# Altium integrated library Oscillator - Crystal.IntLib: 422 symbols (part 5 of 7)
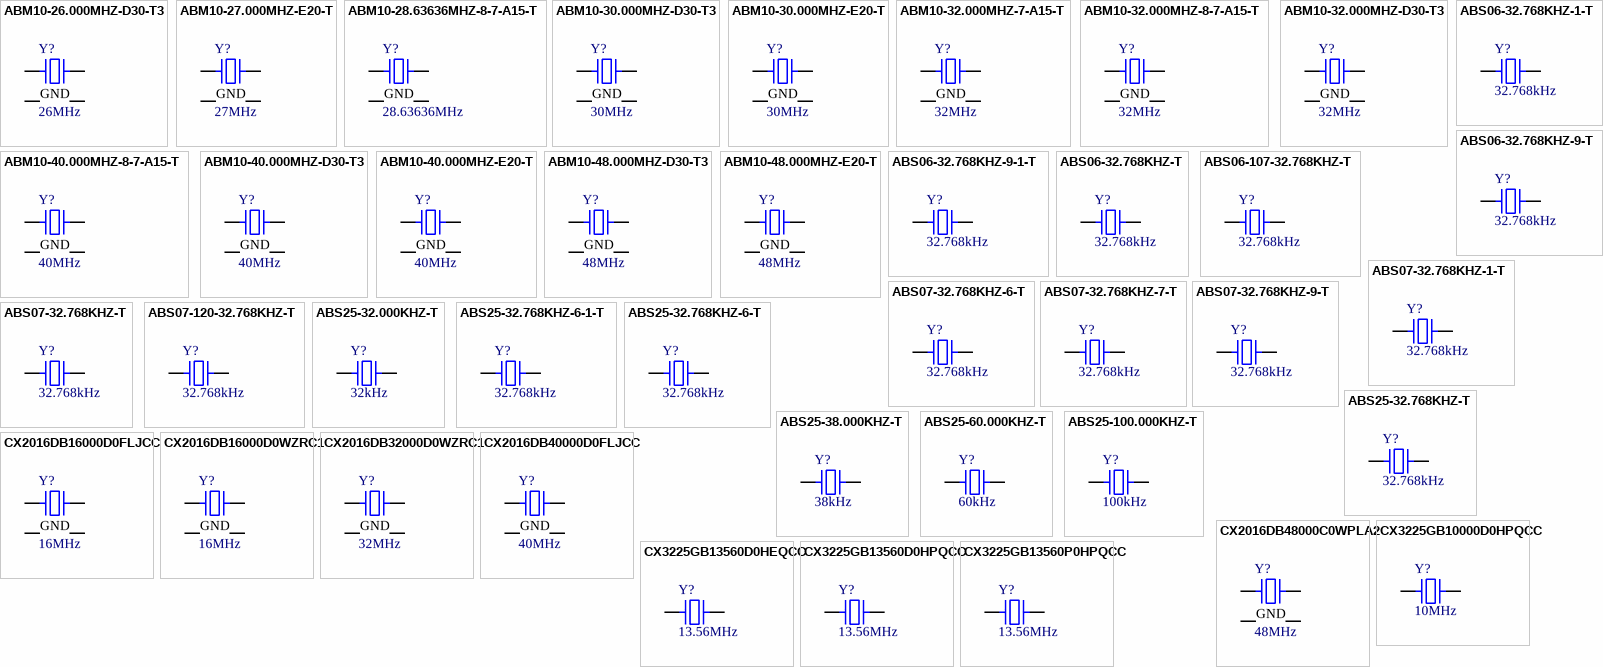
[diagram p14: symbols ABM10-26.000MHZ-D30-T3 to CX3225GB13560P0HPQCC]

## CX2016DB16000D0FLJCC
designator Y?, comment 16MHz
CRYSTAL 16.0000MHZ 8PF SMD; Part Number: CX2016DB16000D0FLJCC; Manufacturer: AVX Corp/Kyocera Corp; Frequency Stability: 15ppm; Frequency Tolerance: 10ppm; ESR: 200 Ohm; Operating Mode: Fundamental; PartId: 8873; Supplier 1: Digi-Key; Supplier Part Number 1: 1253-1348-2-ND; ComponentLink1Description: Datasheet; ComponentLink1URL: http://media.digikey.com/pdf/Data%20Sheets/Optrex%20PDFs/CX2016DB_Series_Spec.pdf; ComponentLink2Description: Digi-Key Listing; ComponentLink2URL: https://www.digikey.com/product-detail/en/CX2016DB16000D0FLJCC/1253-1348-2-ND/4896402; Price: 0,4785; Type: MHz Crystal; Device Package: 4-SMD, No Lead (DFN, LCC); Series: CX2016DB, Kyocera; Frequency: 16MHz; Load Capacitance: 8pF
footprint KYOCERA CX2016DB
pins: 1, 2 GND, 3, 4 GND

## CX2016DB16000D0WZRC1
designator Y?, comment 16MHz
CRYSTAL 16.0000MHZ 8PF SMD; Part Number: CX2016DB16000D0WZRC1; Manufacturer: AVX Corp/Kyocera Corp; Frequency Stability: 40ppm; Frequency Tolerance: 25ppm; ESR: 130 Ohm; Operating Mode: Fundamental; PartId: 8876; Supplier 1: Digi-Key; Supplier Part Number 1: 1253-1585-2-ND; ComponentLink1Description: Datasheet; ComponentLink1URL: http://media.digikey.com/pdf/Data%20Sheets/AVX%20PDFs/CX2016DB16000D0WZRC1_Spec.pdf; ComponentLink2Description: Digi-Key Listing; ComponentLink2URL: https://www.digikey.com/product-detail/en/CX2016DB16000D0WZRC1/1253-1585-2-ND/5436841; Price: 0,3625; Type: MHz Crystal; Device Package: 4-SMD, No Lead (DFN, LCC); Series: CX2016DB, Kyocera; Frequency: 16MHz; Load Capacitance: 8pF
footprint KYOCERA CX2016DB
pins: 1, 2 GND, 3, 4 GND

## CX2016DB32000D0WZRC1
designator Y?, comment 32MHz
CRYSTAL 32.0000MHZ 8PF SMD; Part Number: CX2016DB32000D0WZRC1; Manufacturer: AVX Corp/Kyocera Corp; Frequency Stability: 40ppm; Frequency Tolerance: 25ppm; ESR: 50 Ohm; Operating Mode: Fundamental; PartId: 8877; Supplier 1: Digi-Key; Supplier Part Number 1: 1253-1586-2-ND; ComponentLink1Description: Datasheet; ComponentLink1URL: http://media.digikey.com/pdf/Data%20Sheets/AVX%20PDFs/CX2016DB32000D0WZRC1_Spec.pdf; ComponentLink2Description: Digi-Key Listing; ComponentLink2URL: https://www.digikey.com/product-detail/en/CX2016DB32000D0WZRC1/1253-1586-2-ND/5436842; Price: 0,3625; Type: MHz Crystal; Device Package: 4-SMD, No Lead (DFN, LCC); Series: CX2016DB, Kyocera; Frequency: 32MHz; Load Capacitance: 8pF
footprint KYOCERA CX2016DB
pins: 1, 2 GND, 3, 4 GND

## CX2016DB40000D0FLJCC
designator Y?, comment 40MHz
CRYSTAL 40.0000MHZ 8PF SMD; Part Number: CX2016DB40000D0FLJCC; Manufacturer: AVX Corp/Kyocera Corp; Frequency Stability: 15ppm; Frequency Tolerance: 10ppm; ESR: 50 Ohm; Operating Mode: Fundamental; PartId: 8874; Supplier 1: Digi-Key; Supplier Part Number 1: 1253-1120-2-ND; ComponentLink1Description: Datasheet; ComponentLink1URL: http://media.digikey.com/pdf/Data%20Sheets/Optrex%20PDFs/CX2016DB_Series_Spec.pdf; ComponentLink2Description: Digi-Key Listing; ComponentLink2URL: https://www.digikey.com/product-detail/en/CX2016DB40000D0FLJCC/1253-1120-2-ND/4453820; Price: 0,4785; Type: MHz Crystal; Device Package: 4-SMD, No Lead (DFN, LCC); Series: CX2016DB, Kyocera; Frequency: 40MHz; Load Capacitance: 8pF
footprint KYOCERA CX2016DB
pins: 1, 2 GND, 3, 4 GND

## CX2016DB48000C0WPLA2
designator Y?, comment 48MHz
CRYSTAL 48.0000MHZ 7PF SMD; Part Number: CX2016DB48000C0WPLA2; Manufacturer: AVX Corp/Kyocera Corp; Frequency Stability: 15ppm; Frequency Tolerance: 20ppm; ESR: 22 Ohm; Operating Mode: Fundamental; PartId: 8875; Supplier 1: Digi-Key; Supplier Part Number 1: 1253-1345-2-ND; ComponentLink1Description: Datasheet; ComponentLink1URL: http://media.digikey.com/pdf/Data%20Sheets/AVX%20PDFs/CX2016DB48000C0WPLA2_Spec.pdf; ComponentLink2Description: Digi-Key Listing; ComponentLink2URL: https://www.digikey.com/product-detail/en/CX2016DB48000C0WPLA2/1253-1345-2-ND/4896399; Price: 0,4785; Type: MHz Crystal; Device Package: 4-SMD, No Lead (DFN, LCC); Series: CX2016DB, Kyocera; Frequency: 48MHz; Load Capacitance: 7pF
footprint KYOCERA CX2016DB
pins: 1, 2 GND, 3, 4 GND

## CX3225GB10000D0HPQCC
designator Y?, comment 10MHz
CRYSTAL 10.0000MHZ 8PF SMD; Part Number: CX3225GB10000D0HPQCC; Manufacturer: AVX Corp/Kyocera Corp; Frequency Stability: 30ppm; Frequency Tolerance: 20ppm; ESR: 300 Ohm; Operating Mode: Fundamental; PartId: 8835; Supplier 1: Digi-Key; Supplier Part Number 1: 1253-1164-2-ND; ComponentLink1Description: Datasheet; ComponentLink1URL: http://media.digikey.com/pdf/Data%20Sheets/AVX%20PDFs/CX3225GBxD0HPQCC_Series_Spec.pdf; ComponentLink2Description: Digi-Key Listing; ComponentLink2URL: https://www.digikey.com/product-detail/en/CX3225GB10000D0HPQCC/1253-1164-2-ND/4453884; Price: 0,3915; Type: MHz Crystal; Device Package: 4-SMD, No Lead (DFN, LCC); Series: CX3225GB, Kyocera; Frequency: 10MHz; Load Capacitance: 8pF
footprint Kyocera CX3225GB
pins: 1, 3

## CX3225GB13560D0HEQCC
designator Y?, comment 13.56MHz
CRYSTAL 13.5600MHZ 8PF SMD; Part Number: CX3225GB13560D0HEQCC; Manufacturer: AVX Corp/Kyocera Corp; Frequency Stability: 30ppm; Frequency Tolerance: 20ppm; ESR: 250 Ohm; Operating Mode: Fundamental; PartId: 8823; Supplier 1: Digi-Key; Supplier Part Number 1: 1253-1171-2-ND; ComponentLink1Description: Datasheet; ComponentLink1URL: http://media.digikey.com/pdf/Data%20Sheets/AVX%20PDFs/CX3225GBxD0HEQ_Series_Spec.pdf; ComponentLink2Description: Digi-Key Listing; ComponentLink2URL: https://www.digikey.com/product-detail/en/CX3225GB13560D0HEQCC/1253-1171-2-ND/4453865; Price: 0,377; Type: MHz Crystal; Device Package: 4-SMD, No Lead (DFN, LCC); Series: CX3225GB, Kyocera; Frequency: 13.56MHz; Load Capacitance: 8pF
footprint Kyocera CX3225GB
pins: 1, 3

## CX3225GB13560D0HPQCC
designator Y?, comment 13.56MHz
CRYSTAL 13.5600MHZ 8PF SMD; Part Number: CX3225GB13560D0HPQCC; Manufacturer: AVX Corp/Kyocera Corp; Frequency Stability: 30ppm; Frequency Tolerance: 20ppm; ESR: 250 Ohm; Operating Mode: Fundamental; PartId: 8850; Supplier 1: Digi-Key; Supplier Part Number 1: 1253-1172-2-ND; ComponentLink1Description: Datasheet; ComponentLink1URL: http://media.digikey.com/pdf/Data%20Sheets/AVX%20PDFs/CX3225GBxD0HPQCC_Series_Spec.pdf; ComponentLink2Description: Digi-Key Listing; ComponentLink2URL: https://www.digikey.com/product-detail/en/CX3225GB13560D0HPQCC/1253-1172-2-ND/4453886; Price: 0,4785; Type: MHz Crystal; Device Package: 4-SMD, No Lead (DFN, LCC); Series: CX3225GB, Kyocera; Frequency: 13.56MHz; Load Capacitance: 8pF
footprint Kyocera CX3225GB
pins: 1, 3

## CX3225GB13560P0HPQCC
designator Y?, comment 13.56MHz
CRYSTAL 13.5600MHZ 18PF SMD; Part Number: CX3225GB13560P0HPQCC; Manufacturer: AVX Corp/Kyocera Corp; Frequency Stability: 30ppm; Frequency Tolerance: 20ppm; ESR: 250 Ohm; Operating Mode: Fundamental; PartId: 8821; Supplier 1: Digi-Key; Supplier Part Number 1: 1253-1173-2-ND; ComponentLink1Description: Datasheet; ComponentLink1URL: http://media.digikey.com/pdf/Data%20Sheets/AVX%20PDFs/CX3225GB_Series_Spec.pdf; ComponentLink2Description: Digi-Key Listing; ComponentLink2URL: https://www.digikey.com/product-detail/en/CX3225GB13560P0HPQCC/1253-1173-2-ND/4453909; Price: 0,3915; Type: MHz Crystal; Device Package: 4-SMD, No Lead (DFN, LCC); Series: CX3225GB, Kyocera; Frequency: 13.56MHz; Load Capacitance: 18pF
footprint Kyocera CX3225GB
pins: 1, 3

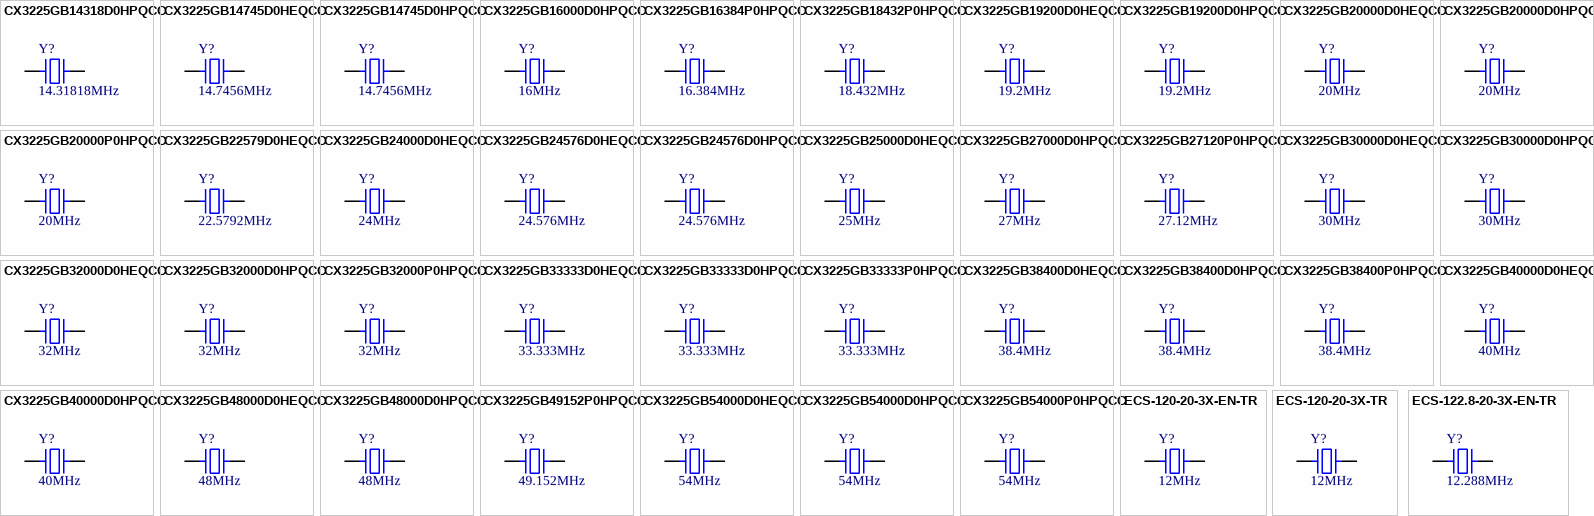
[diagram p7: symbols CX3225GB14318D0HPQCC to ECS-122.8-20-3X-EN-TR]

## CX3225GB14318D0HPQCC
designator Y?, comment 14.31818MHz
CRYSTAL 14.31818MHZ 8PF SMD; Part Number: CX3225GB14318D0HPQCC; Manufacturer: AVX Corp/Kyocera Corp; Frequency Stability: 30ppm; Frequency Tolerance: 20ppm; ESR: 100 Ohm; Operating Mode: Fundamental; PartId: 8836; Supplier 1: Digi-Key; Supplier Part Number 1: 1253-1175-2-ND; ComponentLink1Description: Datasheet; ComponentLink1URL: http://media.digikey.com/pdf/Data%20Sheets/AVX%20PDFs/CX3225GBxD0HPQCC_Series_Spec.pdf; ComponentLink2Description: Digi-Key Listing; ComponentLink2URL: https://www.digikey.com/product-detail/en/CX3225GB14318D0HPQCC/1253-1175-2-ND/4453887; Price: 0,3915; Type: MHz Crystal; Device Package: 4-SMD, No Lead (DFN, LCC); Series: CX3225GB, Kyocera; Frequency: 14.31818MHz; Load Capacitance: 8pF
footprint Kyocera CX3225GB
pins: 1, 3

## CX3225GB14745D0HEQCC
designator Y?, comment 14.7456MHz
CRYSTAL 14.7456MHZ 8PF SMD; Part Number: CX3225GB14745D0HEQCC; Manufacturer: AVX Corp/Kyocera Corp; Frequency Stability: 30ppm; Frequency Tolerance: 20ppm; ESR: 100 Ohm; Operating Mode: Fundamental; PartId: 8824; Supplier 1: Digi-Key; Supplier Part Number 1: 1253-1177-2-ND; ComponentLink1Description: Datasheet; ComponentLink1URL: http://media.digikey.com/pdf/Data%20Sheets/AVX%20PDFs/CX3225GBxD0HEQ_Series_Spec.pdf; ComponentLink2Description: Digi-Key Listing; ComponentLink2URL: https://www.digikey.com/product-detail/en/CX3225GB14745D0HEQCC/1253-1177-2-ND/4453867; Price: 0,377; Type: MHz Crystal; Device Package: 4-SMD, No Lead (DFN, LCC); Series: CX3225GB, Kyocera; Frequency: 14.7456MHz; Load Capacitance: 8pF
footprint Kyocera CX3225GB
pins: 1, 3

## CX3225GB14745D0HPQCC
designator Y?, comment 14.7456MHz
CRYSTAL 14.7456MHZ 8PF SMD; Part Number: CX3225GB14745D0HPQCC; Manufacturer: AVX Corp/Kyocera Corp; Frequency Stability: 30ppm; Frequency Tolerance: 20ppm; ESR: 100 Ohm; Operating Mode: Fundamental; PartId: 8805; Supplier 1: Digi-Key; Supplier Part Number 1: 1253-1178-2-ND; ComponentLink1Description: Datasheet; ComponentLink1URL: http://media.digikey.com/pdf/Data%20Sheets/AVX%20PDFs/CX3225GBxD0HPQCC_Series_Spec.pdf; ComponentLink2Description: Digi-Key Listing; ComponentLink2URL: https://www.digikey.com/product-detail/en/CX3225GB14745D0HPQCC/1253-1178-2-ND/4453888; Price: 0,406; Type: MHz Crystal; Device Package: 4-SMD, No Lead (DFN, LCC); Series: CX3225GB, Kyocera; Frequency: 14.7456MHz; Load Capacitance: 8pF
footprint Kyocera CX3225GB
pins: 1, 3

## CX3225GB16000D0HPQCC
designator Y?, comment 16MHz
CRYSTAL 16.0000MHZ 8PF SMD; Part Number: CX3225GB16000D0HPQCC; Manufacturer: AVX Corp/Kyocera Corp; Frequency Stability: 30ppm; Frequency Tolerance: 20ppm; ESR: 80 Ohm; Operating Mode: Fundamental; PartId: 8799; Supplier 1: Digi-Key; Supplier Part Number 1: 1253-1181-2-ND; ComponentLink1Description: Datasheet; ComponentLink1URL: http://media.digikey.com/pdf/Data%20Sheets/AVX%20PDFs/CX3225GBxD0HPQCC_Series_Spec.pdf; ComponentLink2Description: Digi-Key Listing; ComponentLink2URL: https://www.digikey.com/product-detail/en/CX3225GB16000D0HPQCC/1253-1181-2-ND/4453889; Price: 0,345; Type: MHz Crystal; Device Package: 4-SMD, No Lead (DFN, LCC); Series: CX3225GB, Kyocera; Frequency: 16MHz; Load Capacitance: 8pF
footprint Kyocera CX3225GB
pins: 1, 3

## CX3225GB16384P0HPQCC
designator Y?, comment 16.384MHz
CRYSTAL 16.3840MHZ 18PF SMD; Part Number: CX3225GB16384P0HPQCC; Manufacturer: AVX Corp/Kyocera Corp; Frequency Stability: 30ppm; Frequency Tolerance: 20ppm; ESR: 80 Ohm; Operating Mode: Fundamental; PartId: 8844; Supplier 1: Digi-Key; Supplier Part Number 1: 1253-1183-2-ND; ComponentLink1Description: Datasheet; ComponentLink1URL: http://media.digikey.com/pdf/Data%20Sheets/AVX%20PDFs/CX3225GB_Series_Spec.pdf; ComponentLink2Description: Digi-Key Listing; ComponentLink2URL: https://www.digikey.com/product-detail/en/CX3225GB16384P0HPQCC/1253-1183-2-ND/4453913; Price: 0,3915; Type: MHz Crystal; Device Package: 4-SMD, No Lead (DFN, LCC); Series: CX3225GB, Kyocera; Frequency: 16.384MHz; Load Capacitance: 18pF
footprint Kyocera CX3225GB
pins: 1, 3

## CX3225GB18432P0HPQCC
designator Y?, comment 18.432MHz
CRYSTAL 18.4320MHZ 18PF SMD; Part Number: CX3225GB18432P0HPQCC; Manufacturer: AVX Corp/Kyocera Corp; Frequency Stability: 30ppm; Frequency Tolerance: 20ppm; ESR: 80 Ohm; Operating Mode: Fundamental; PartId: 8845; Supplier 1: Digi-Key; Supplier Part Number 1: 1253-1186-2-ND; ComponentLink1Description: Datasheet; ComponentLink1URL: http://media.digikey.com/pdf/Data%20Sheets/AVX%20PDFs/CX3225GB_Series_Spec.pdf; ComponentLink2Description: Digi-Key Listing; ComponentLink2URL: https://www.digikey.com/product-detail/en/CX3225GB18432P0HPQCC/1253-1186-2-ND/4453914; Price: 0,3915; Type: MHz Crystal; Device Package: 4-SMD, No Lead (DFN, LCC); Series: CX3225GB, Kyocera; Frequency: 18.432MHz; Load Capacitance: 18pF
footprint Kyocera CX3225GB
pins: 1, 3

## CX3225GB19200D0HEQCC
designator Y?, comment 19.2MHz
CRYSTAL 19.2000MHZ 8PF SMD; Part Number: CX3225GB19200D0HEQCC; Manufacturer: AVX Corp/Kyocera Corp; Frequency Stability: 30ppm; Frequency Tolerance: 20ppm; ESR: 80 Ohm; Operating Mode: Fundamental; PartId: 8825; Supplier 1: Digi-Key; Supplier Part Number 1: 1253-1187-2-ND; ComponentLink1Description: Datasheet; ComponentLink1URL: http://media.digikey.com/pdf/Data%20Sheets/AVX%20PDFs/CX3225GBxD0HEQ_Series_Spec.pdf; ComponentLink2Description: Digi-Key Listing; ComponentLink2URL: https://www.digikey.com/product-detail/en/CX3225GB19200D0HEQCC/1253-1187-2-ND/4453870; Price: 0,377; Type: MHz Crystal; Device Package: 4-SMD, No Lead (DFN, LCC); Series: CX3225GB, Kyocera; Frequency: 19.2MHz; Load Capacitance: 8pF
footprint Kyocera CX3225GB
pins: 1, 3

## CX3225GB19200D0HPQCC
designator Y?, comment 19.2MHz
CRYSTAL 19.2000MHZ 8PF SMD; Part Number: CX3225GB19200D0HPQCC; Manufacturer: AVX Corp/Kyocera Corp; Frequency Stability: 30ppm; Frequency Tolerance: 20ppm; ESR: 80 Ohm; Operating Mode: Fundamental; PartId: 8837; Supplier 1: Digi-Key; Supplier Part Number 1: 1253-1188-2-ND; ComponentLink1Description: Datasheet; ComponentLink1URL: http://media.digikey.com/pdf/Data%20Sheets/AVX%20PDFs/CX3225GBxD0HPQCC_Series_Spec.pdf; ComponentLink2Description: Digi-Key Listing; ComponentLink2URL: https://www.digikey.com/product-detail/en/CX3225GB19200D0HPQCC/1253-1188-2-ND/4453891; Price: 0,3915; Type: MHz Crystal; Device Package: 4-SMD, No Lead (DFN, LCC); Series: CX3225GB, Kyocera; Frequency: 19.2MHz; Load Capacitance: 8pF
footprint Kyocera CX3225GB
pins: 1, 3

## CX3225GB20000D0HEQCC
designator Y?, comment 20MHz
CRYSTAL 20.0000MHZ 8PF SMD; Part Number: CX3225GB20000D0HEQCC; Manufacturer: AVX Corp/Kyocera Corp; Frequency Stability: 30ppm; Frequency Tolerance: 20ppm; ESR: 60 Ohm; Operating Mode: Fundamental; PartId: 8826; Supplier 1: Digi-Key; Supplier Part Number 1: 1253-1190-2-ND; ComponentLink1Description: Datasheet; ComponentLink1URL: http://media.digikey.com/pdf/Data%20Sheets/AVX%20PDFs/CX3225GBxD0HEQ_Series_Spec.pdf; ComponentLink2Description: Digi-Key Listing; ComponentLink2URL: https://www.digikey.com/product-detail/en/CX3225GB20000D0HEQCC/1253-1190-2-ND/4453871; Price: 0,377; Type: MHz Crystal; Device Package: 4-SMD, No Lead (DFN, LCC); Series: CX3225GB, Kyocera; Frequency: 20MHz; Load Capacitance: 8pF
footprint Kyocera CX3225GB
pins: 1, 3

## CX3225GB20000D0HPQCC
designator Y?, comment 20MHz
CRYSTAL 20.0000MHZ 8PF SMD; Part Number: CX3225GB20000D0HPQCC; Manufacturer: AVX Corp/Kyocera Corp; Frequency Stability: 30ppm; Frequency Tolerance: 20ppm; ESR: 60 Ohm; Operating Mode: Fundamental; PartId: 8802; Supplier 1: Digi-Key; Supplier Part Number 1: 1253-1191-2-ND; ComponentLink1Description: Datasheet; ComponentLink1URL: http://media.digikey.com/pdf/Data%20Sheets/AVX%20PDFs/CX3225GBxD0HPQCC_Series_Spec.pdf; ComponentLink2Description: Digi-Key Listing; ComponentLink2URL: https://www.digikey.com/product-detail/en/CX3225GB20000D0HPQCC/1253-1191-2-ND/4453892; Price: 0,3915; Type: MHz Crystal; Device Package: 4-SMD, No Lead (DFN, LCC); Series: CX3225GB, Kyocera; Frequency: 20MHz; Load Capacitance: 8pF
footprint Kyocera CX3225GB
pins: 1, 3

## CX3225GB20000P0HPQCC
designator Y?, comment 20MHz
CRYSTAL 20.0000MHZ 18PF SMD; Part Number: CX3225GB20000P0HPQCC; Manufacturer: AVX Corp/Kyocera Corp; Frequency Stability: 30ppm; Frequency Tolerance: 20ppm; ESR: 60 Ohm; Operating Mode: Fundamental; PartId: 8846; Supplier 1: Digi-Key; Supplier Part Number 1: 1253-1192-2-ND; ComponentLink1Description: Datasheet; ComponentLink1URL: http://media.digikey.com/pdf/Data%20Sheets/AVX%20PDFs/CX3225GB_Series_Spec.pdf; ComponentLink2Description: Digi-Key Listing; ComponentLink2URL: https://www.digikey.com/product-detail/en/CX3225GB20000P0HPQCC/1253-1192-2-ND/4453916; Price: 0,3915; Type: MHz Crystal; Device Package: 4-SMD, No Lead (DFN, LCC); Series: CX3225GB, Kyocera; Frequency: 20MHz; Load Capacitance: 18pF
footprint Kyocera CX3225GB
pins: 1, 3

## CX3225GB22579D0HEQCC
designator Y?, comment 22.5792MHz
CRYSTAL 22.5792MHZ 8PF SMD; Part Number: CX3225GB22579D0HEQCC; Manufacturer: AVX Corp/Kyocera Corp; Frequency Stability: 30ppm; Frequency Tolerance: 20ppm; ESR: 60 Ohm; Operating Mode: Fundamental; PartId: 8827; Supplier 1: Digi-Key; Supplier Part Number 1: 1253-1193-2-ND; ComponentLink1Description: Datasheet; ComponentLink1URL: http://media.digikey.com/pdf/Data%20Sheets/AVX%20PDFs/CX3225GBxD0HEQ_Series_Spec.pdf; ComponentLink2Description: Digi-Key Listing; ComponentLink2URL: https://www.digikey.com/product-detail/en/CX3225GB22579D0HEQCC/1253-1193-2-ND/4453872; Price: 0,377; Type: MHz Crystal; Device Package: 4-SMD, No Lead (DFN, LCC); Series: CX3225GB, Kyocera; Frequency: 22.5792MHz; Load Capacitance: 8pF
footprint Kyocera CX3225GB
pins: 1, 3

## CX3225GB24000D0HEQCC
designator Y?, comment 24MHz
CRYSTAL 24.0000MHZ 8PF SMD; Part Number: CX3225GB24000D0HEQCC; Manufacturer: AVX Corp/Kyocera Corp; Frequency Stability: 30ppm; Frequency Tolerance: 20ppm; ESR: 60 Ohm; Operating Mode: Fundamental; PartId: 8811; Supplier 1: Digi-Key; Supplier Part Number 1: 1253-1196-2-ND; ComponentLink1Description: Datasheet; ComponentLink1URL: http://media.digikey.com/pdf/Data%20Sheets/AVX%20PDFs/CX3225GBxD0HEQ_Series_Spec.pdf; ComponentLink2Description: Digi-Key Listing; ComponentLink2URL: https://www.digikey.com/product-detail/en/CX3225GB24000D0HEQCC/1253-1196-2-ND/4453873; Price: 0,297; Type: MHz Crystal; Device Package: 4-SMD, No Lead (DFN, LCC); Series: CX3225GB, Kyocera; Frequency: 24MHz; Load Capacitance: 8pF
footprint Kyocera CX3225GB
pins: 1, 3

## CX3225GB24576D0HEQCC
designator Y?, comment 24.576MHz
CRYSTAL 24.5760MHZ 8PF SMD; Part Number: CX3225GB24576D0HEQCC; Manufacturer: AVX Corp/Kyocera Corp; Frequency Stability: 30ppm; Frequency Tolerance: 20ppm; ESR: 60 Ohm; Operating Mode: Fundamental; PartId: 8828; Supplier 1: Digi-Key; Supplier Part Number 1: 1253-1199-2-ND; ComponentLink1Description: Datasheet; ComponentLink1URL: http://media.digikey.com/pdf/Data%20Sheets/AVX%20PDFs/CX3225GBxD0HEQ_Series_Spec.pdf; ComponentLink2Description: Digi-Key Listing; ComponentLink2URL: https://www.digikey.com/product-detail/en/CX3225GB24576D0HEQCC/1253-1199-2-ND/4453874; Price: 0,377; Type: MHz Crystal; Device Package: 4-SMD, No Lead (DFN, LCC); Series: CX3225GB, Kyocera; Frequency: 24.576MHz; Load Capacitance: 8pF
footprint Kyocera CX3225GB
pins: 1, 3

## CX3225GB24576D0HPQCC
designator Y?, comment 24.576MHz
CRYSTAL 24.5760MHZ 8PF SMD; Part Number: CX3225GB24576D0HPQCC; Manufacturer: AVX Corp/Kyocera Corp; Frequency Stability: 30ppm; Frequency Tolerance: 20ppm; ESR: 60 Ohm; Operating Mode: Fundamental; PartId: 8820; Supplier 1: Digi-Key; Supplier Part Number 1: 1253-1200-2-ND; ComponentLink1Description: Datasheet; ComponentLink1URL: http://media.digikey.com/pdf/Data%20Sheets/AVX%20PDFs/CX3225GBxD0HPQCC_Series_Spec.pdf; ComponentLink2Description: Digi-Key Listing; ComponentLink2URL: https://www.digikey.com/product-detail/en/CX3225GB24576D0HPQCC/1253-1200-2-ND/4453895; Price: 0,3915; Type: MHz Crystal; Device Package: 4-SMD, No Lead (DFN, LCC); Series: CX3225GB, Kyocera; Frequency: 24.576MHz; Load Capacitance: 8pF
footprint Kyocera CX3225GB
pins: 1, 3

## CX3225GB25000D0HEQCC
designator Y?, comment 25MHz
CRYSTAL 25.0000MHZ 8PF SMD; Part Number: CX3225GB25000D0HEQCC; Manufacturer: AVX Corp/Kyocera Corp; Frequency Stability: 30ppm; Frequency Tolerance: 20ppm; ESR: 60 Ohm; Operating Mode: Fundamental; PartId: 8796; Supplier 1: Digi-Key; Supplier Part Number 1: 1253-1202-2-ND; ComponentLink1Description: Datasheet; ComponentLink1URL: http://media.digikey.com/pdf/Data%20Sheets/AVX%20PDFs/CX3225GBxD0HEQ_Series_Spec.pdf; ComponentLink2Description: Digi-Key Listing; ComponentLink2URL: https://www.digikey.com/product-detail/en/CX3225GB25000D0HEQCC/1253-1202-2-ND/4453875; Price: 0,377; Type: MHz Crystal; Device Package: 4-SMD, No Lead (DFN, LCC); Series: CX3225GB, Kyocera; Frequency: 25MHz; Load Capacitance: 8pF
footprint Kyocera CX3225GB
pins: 1, 3

## CX3225GB27000D0HPQCC
designator Y?, comment 27MHz
CRYSTAL 27.0000MHZ 8PF SMD; Part Number: CX3225GB27000D0HPQCC; Manufacturer: AVX Corp/Kyocera Corp; Frequency Stability: 30ppm; Frequency Tolerance: 20ppm; ESR: 50 Ohm; Operating Mode: Fundamental; PartId: 8838; Supplier 1: Digi-Key; Supplier Part Number 1: 1253-1206-2-ND; ComponentLink1Description: Datasheet; ComponentLink1URL: http://media.digikey.com/pdf/Data%20Sheets/AVX%20PDFs/CX3225GBxD0HPQCC_Series_Spec.pdf; ComponentLink2Description: Digi-Key Listing; ComponentLink2URL: https://www.digikey.com/product-detail/en/CX3225GB27000D0HPQCC/1253-1206-2-ND/4453897; Price: 0,3915; Type: MHz Crystal; Device Package: 4-SMD, No Lead (DFN, LCC); Series: CX3225GB, Kyocera; Frequency: 27MHz; Load Capacitance: 8pF
footprint Kyocera CX3225GB
pins: 1, 3

## CX3225GB27120P0HPQCC
designator Y?, comment 27.12MHz
CRYSTAL 27.1200MHZ 18PF SMD; Part Number: CX3225GB27120P0HPQCC; Manufacturer: AVX Corp/Kyocera Corp; Frequency Stability: 30ppm; Frequency Tolerance: 20ppm; ESR: 50 Ohm; Operating Mode: Fundamental; PartId: 8808; Supplier 1: Digi-Key; Supplier Part Number 1: 1253-1208-2-ND; ComponentLink1Description: Datasheet; ComponentLink1URL: http://media.digikey.com/pdf/Data%20Sheets/AVX%20PDFs/CX3225GB_Series_Spec.pdf; ComponentLink2Description: Digi-Key Listing; ComponentLink2URL: https://www.digikey.com/product-detail/en/CX3225GB27120P0HPQCC/1253-1208-2-ND/4453922; Price: 0,406; Type: MHz Crystal; Device Package: 4-SMD, No Lead (DFN, LCC); Series: CX3225GB, Kyocera; Frequency: 27.12MHz; Load Capacitance: 18pF
footprint Kyocera CX3225GB
pins: 1, 3

## CX3225GB30000D0HEQCC
designator Y?, comment 30MHz
CRYSTAL 30.0000MHZ 8PF SMD; Part Number: CX3225GB30000D0HEQCC; Manufacturer: AVX Corp/Kyocera Corp; Frequency Stability: 30ppm; Frequency Tolerance: 20ppm; ESR: 50 Ohm; Operating Mode: Fundamental; PartId: 8829; Supplier 1: Digi-Key; Supplier Part Number 1: 1253-1209-2-ND; ComponentLink1Description: Datasheet; ComponentLink1URL: http://media.digikey.com/pdf/Data%20Sheets/AVX%20PDFs/CX3225GBxD0HEQ_Series_Spec.pdf; ComponentLink2Description: Digi-Key Listing; ComponentLink2URL: https://www.digikey.com/product-detail/en/CX3225GB30000D0HEQCC/1253-1209-2-ND/4453877; Price: 0,377; Type: MHz Crystal; Device Package: 4-SMD, No Lead (DFN, LCC); Series: CX3225GB, Kyocera; Frequency: 30MHz; Load Capacitance: 8pF
footprint Kyocera CX3225GB
pins: 1, 3

## CX3225GB30000D0HPQCC
designator Y?, comment 30MHz
CRYSTAL 30.0000MHZ 8PF SMD; Part Number: CX3225GB30000D0HPQCC; Manufacturer: AVX Corp/Kyocera Corp; Frequency Stability: 30ppm; Frequency Tolerance: 20ppm; ESR: 50 Ohm; Operating Mode: Fundamental; PartId: 8851; Supplier 1: Digi-Key; Supplier Part Number 1: 1253-1210-2-ND; ComponentLink1Description: Datasheet; ComponentLink1URL: http://media.digikey.com/pdf/Data%20Sheets/AVX%20PDFs/CX3225GBxD0HPQCC_Series_Spec.pdf; ComponentLink2Description: Digi-Key Listing; ComponentLink2URL: https://www.digikey.com/product-detail/en/CX3225GB30000D0HPQCC/1253-1210-2-ND/4453898; Price: 0,4785; Type: MHz Crystal; Device Package: 4-SMD, No Lead (DFN, LCC); Series: CX3225GB, Kyocera; Frequency: 30MHz; Load Capacitance: 8pF
footprint Kyocera CX3225GB
pins: 1, 3

## CX3225GB32000D0HEQCC
designator Y?, comment 32MHz
CRYSTAL 32.0000MHZ 8PF SMD; Part Number: CX3225GB32000D0HEQCC; Manufacturer: AVX Corp/Kyocera Corp; Frequency Stability: 30ppm; Frequency Tolerance: 20ppm; ESR: 50 Ohm; Operating Mode: Fundamental; PartId: 8817; Supplier 1: Digi-Key; Supplier Part Number 1: 1253-1212-2-ND; ComponentLink1Description: Datasheet; ComponentLink1URL: http://media.digikey.com/pdf/Data%20Sheets/AVX%20PDFs/CX3225GBxD0HEQ_Series_Spec.pdf; ComponentLink2Description: Digi-Key Listing; ComponentLink2URL: https://www.digikey.com/product-detail/en/CX3225GB32000D0HEQCC/1253-1212-2-ND/4453878; Price: 0,377; Type: MHz Crystal; Device Package: 4-SMD, No Lead (DFN, LCC); Series: CX3225GB, Kyocera; Frequency: 32MHz; Load Capacitance: 8pF
footprint Kyocera CX3225GB
pins: 1, 3

## CX3225GB32000D0HPQCC
designator Y?, comment 32MHz
CRYSTAL 32.0000MHZ 8PF SMD; Part Number: CX3225GB32000D0HPQCC; Manufacturer: AVX Corp/Kyocera Corp; Frequency Stability: 30ppm; Frequency Tolerance: 20ppm; ESR: 50 Ohm; Operating Mode: Fundamental; PartId: 8839; Supplier 1: Digi-Key; Supplier Part Number 1: 1253-1213-2-ND; ComponentLink1Description: Datasheet; ComponentLink1URL: http://media.digikey.com/pdf/Data%20Sheets/AVX%20PDFs/CX3225GBxD0HPQCC_Series_Spec.pdf; ComponentLink2Description: Digi-Key Listing; ComponentLink2URL: https://www.digikey.com/product-detail/en/CX3225GB32000D0HPQCC/1253-1213-2-ND/4453899; Price: 0,3915; Type: MHz Crystal; Device Package: 4-SMD, No Lead (DFN, LCC); Series: CX3225GB, Kyocera; Frequency: 32MHz; Load Capacitance: 8pF
footprint Kyocera CX3225GB
pins: 1, 3

## CX3225GB32000P0HPQCC
designator Y?, comment 32MHz
CRYSTAL 32.0000MHZ 18PF SMD; Part Number: CX3225GB32000P0HPQCC; Manufacturer: AVX Corp/Kyocera Corp; Frequency Stability: 30ppm; Frequency Tolerance: 20ppm; ESR: 50 Ohm; Operating Mode: Fundamental; PartId: 8847; Supplier 1: Digi-Key; Supplier Part Number 1: 1253-1214-2-ND; ComponentLink1Description: Datasheet; ComponentLink1URL: http://media.digikey.com/pdf/Data%20Sheets/AVX%20PDFs/CX3225GB_Series_Spec.pdf; ComponentLink2Description: Digi-Key Listing; ComponentLink2URL: https://www.digikey.com/product-detail/en/CX3225GB32000P0HPQCC/1253-1214-2-ND/4453924; Price: 0,3915; Type: MHz Crystal; Device Package: 4-SMD, No Lead (DFN, LCC); Series: CX3225GB, Kyocera; Frequency: 32MHz; Load Capacitance: 18pF
footprint Kyocera CX3225GB
pins: 1, 3

## CX3225GB33333D0HEQCC
designator Y?, comment 33.333MHz
CRYSTAL 33.3330MHZ 8PF SMD; Part Number: CX3225GB33333D0HEQCC; Manufacturer: AVX Corp/Kyocera Corp; Frequency Stability: 30ppm; Frequency Tolerance: 20ppm; ESR: 50 Ohm; Operating Mode: Fundamental; PartId: 8830; Supplier 1: Digi-Key; Supplier Part Number 1: 1253-1215-2-ND; ComponentLink1Description: Datasheet; ComponentLink1URL: http://media.digikey.com/pdf/Data%20Sheets/AVX%20PDFs/CX3225GBxD0HEQ_Series_Spec.pdf; ComponentLink2Description: Digi-Key Listing; ComponentLink2URL: https://www.digikey.com/product-detail/en/CX3225GB33333D0HEQCC/1253-1215-2-ND/4453879; Price: 0,377; Type: MHz Crystal; Device Package: 4-SMD, No Lead (DFN, LCC); Series: CX3225GB, Kyocera; Frequency: 33.333MHz; Load Capacitance: 8pF
footprint Kyocera CX3225GB
pins: 1, 3

## CX3225GB33333D0HPQCC
designator Y?, comment 33.333MHz
CRYSTAL 33.3330MHZ 8PF SMD; Part Number: CX3225GB33333D0HPQCC; Manufacturer: AVX Corp/Kyocera Corp; Frequency Stability: 30ppm; Frequency Tolerance: 20ppm; ESR: 50 Ohm; Operating Mode: Fundamental; PartId: 8852; Supplier 1: Digi-Key; Supplier Part Number 1: 1253-1216-2-ND; ComponentLink1Description: Datasheet; ComponentLink1URL: http://media.digikey.com/pdf/Data%20Sheets/AVX%20PDFs/CX3225GBxD0HPQCC_Series_Spec.pdf; ComponentLink2Description: Digi-Key Listing; ComponentLink2URL: https://www.digikey.com/product-detail/en/CX3225GB33333D0HPQCC/1253-1216-2-ND/4453900; Price: 0,4785; Type: MHz Crystal; Device Package: 4-SMD, No Lead (DFN, LCC); Series: CX3225GB, Kyocera; Frequency: 33.333MHz; Load Capacitance: 8pF
footprint Kyocera CX3225GB
pins: 1, 3

## CX3225GB33333P0HPQCC
designator Y?, comment 33.333MHz
CRYSTAL 33.3330MHZ 18PF SMD; Part Number: CX3225GB33333P0HPQCC; Manufacturer: AVX Corp/Kyocera Corp; Frequency Stability: 30ppm; Frequency Tolerance: 20ppm; ESR: 50 Ohm; Operating Mode: Fundamental; PartId: 8822; Supplier 1: Digi-Key; Supplier Part Number 1: 1253-1217-2-ND; ComponentLink1Description: Datasheet; ComponentLink1URL: http://media.digikey.com/pdf/Data%20Sheets/AVX%20PDFs/CX3225GB_Series_Spec.pdf; ComponentLink2Description: Digi-Key Listing; ComponentLink2URL: https://www.digikey.com/product-detail/en/CX3225GB33333P0HPQCC/1253-1217-2-ND/4453925; Price: 0,406; Type: MHz Crystal; Device Package: 4-SMD, No Lead (DFN, LCC); Series: CX3225GB, Kyocera; Frequency: 33.333MHz; Load Capacitance: 18pF
footprint Kyocera CX3225GB
pins: 1, 3

## CX3225GB38400D0HEQCC
designator Y?, comment 38.4MHz
CRYSTAL 38.4000MHZ 8PF SMD; Part Number: CX3225GB38400D0HEQCC; Manufacturer: AVX Corp/Kyocera Corp; Frequency Stability: 30ppm; Frequency Tolerance: 20ppm; ESR: 50 Ohm; Operating Mode: Fundamental; PartId: 8831; Supplier 1: Digi-Key; Supplier Part Number 1: 1253-1219-2-ND; ComponentLink1Description: Datasheet; ComponentLink1URL: http://media.digikey.com/pdf/Data%20Sheets/AVX%20PDFs/CX3225GBxD0HEQ_Series_Spec.pdf; ComponentLink2Description: Digi-Key Listing; ComponentLink2URL: https://www.digikey.com/product-detail/en/CX3225GB38400D0HEQCC/1253-1219-2-ND/4453880; Price: 0,377; Type: MHz Crystal; Device Package: 4-SMD, No Lead (DFN, LCC); Series: CX3225GB, Kyocera; Frequency: 38.4MHz; Load Capacitance: 8pF
footprint Kyocera CX3225GB
pins: 1, 3

## CX3225GB38400D0HPQCC
designator Y?, comment 38.4MHz
CRYSTAL 38.4000MHZ 8PF SMD; Part Number: CX3225GB38400D0HPQCC; Manufacturer: AVX Corp/Kyocera Corp; Frequency Stability: 30ppm; Frequency Tolerance: 20ppm; ESR: 50 Ohm; Operating Mode: Fundamental; PartId: 8840; Supplier 1: Digi-Key; Supplier Part Number 1: 1253-1220-2-ND; ComponentLink1Description: Datasheet; ComponentLink1URL: http://media.digikey.com/pdf/Data%20Sheets/AVX%20PDFs/CX3225GBxD0HPQCC_Series_Spec.pdf; ComponentLink2Description: Digi-Key Listing; ComponentLink2URL: https://www.digikey.com/product-detail/en/CX3225GB38400D0HPQCC/1253-1220-2-ND/4453901; Price: 0,3915; Type: MHz Crystal; Device Package: 4-SMD, No Lead (DFN, LCC); Series: CX3225GB, Kyocera; Frequency: 38.4MHz; Load Capacitance: 8pF
footprint Kyocera CX3225GB
pins: 1, 3

## CX3225GB38400P0HPQCC
designator Y?, comment 38.4MHz
CRYSTAL 38.4000MHZ 18PF SMD; Part Number: CX3225GB38400P0HPQCC; Manufacturer: AVX Corp/Kyocera Corp; Frequency Stability: 30ppm; Frequency Tolerance: 20ppm; ESR: 50 Ohm; Operating Mode: Fundamental; PartId: 8848; Supplier 1: Digi-Key; Supplier Part Number 1: 1253-1221-2-ND; ComponentLink1Description: Datasheet; ComponentLink1URL: http://media.digikey.com/pdf/Data%20Sheets/AVX%20PDFs/CX3225GB_Series_Spec.pdf; ComponentLink2Description: Digi-Key Listing; ComponentLink2URL: https://www.digikey.com/product-detail/en/CX3225GB38400P0HPQCC/1253-1221-2-ND/4453927; Price: 0,3915; Type: MHz Crystal; Device Package: 4-SMD, No Lead (DFN, LCC); Series: CX3225GB, Kyocera; Frequency: 38.4MHz; Load Capacitance: 18pF
footprint Kyocera CX3225GB
pins: 1, 3

## CX3225GB40000D0HEQCC
designator Y?, comment 40MHz
CRYSTAL 40.0000MHZ 8PF SMD; Part Number: CX3225GB40000D0HEQCC; Manufacturer: AVX Corp/Kyocera Corp; Frequency Stability: 30ppm; Frequency Tolerance: 20ppm; ESR: 50 Ohm; Operating Mode: Fundamental; PartId: 8832; Supplier 1: Digi-Key; Supplier Part Number 1: 1253-1222-2-ND; ComponentLink1Description: Datasheet; ComponentLink1URL: http://media.digikey.com/pdf/Data%20Sheets/AVX%20PDFs/CX3225GBxD0HEQ_Series_Spec.pdf; ComponentLink2Description: Digi-Key Listing; ComponentLink2URL: https://www.digikey.com/product-detail/en/CX3225GB40000D0HEQCC/1253-1222-2-ND/4453881; Price: 0,377; Type: MHz Crystal; Device Package: 4-SMD, No Lead (DFN, LCC); Series: CX3225GB, Kyocera; Frequency: 40MHz; Load Capacitance: 8pF
footprint Kyocera CX3225GB
pins: 1, 3

## CX3225GB40000D0HPQCC
designator Y?, comment 40MHz
CRYSTAL 40.0000MHZ 8PF SMD; Part Number: CX3225GB40000D0HPQCC; Manufacturer: AVX Corp/Kyocera Corp; Frequency Stability: 30ppm; Frequency Tolerance: 20ppm; ESR: 50 Ohm; Operating Mode: Fundamental; PartId: 8841; Supplier 1: Digi-Key; Supplier Part Number 1: 1253-1223-2-ND; ComponentLink1Description: Datasheet; ComponentLink1URL: http://media.digikey.com/pdf/Data%20Sheets/AVX%20PDFs/CX3225GBxD0HPQCC_Series_Spec.pdf; ComponentLink2Description: Digi-Key Listing; ComponentLink2URL: https://www.digikey.com/product-detail/en/CX3225GB40000D0HPQCC/1253-1223-2-ND/4453902; Price: 0,3915; Type: MHz Crystal; Device Package: 4-SMD, No Lead (DFN, LCC); Series: CX3225GB, Kyocera; Frequency: 40MHz; Load Capacitance: 8pF
footprint Kyocera CX3225GB
pins: 1, 3

## CX3225GB48000D0HEQCC
designator Y?, comment 48MHz
CRYSTAL 48.0000MHZ 8PF SMD; Part Number: CX3225GB48000D0HEQCC; Manufacturer: AVX Corp/Kyocera Corp; Frequency Stability: 30ppm; Frequency Tolerance: 20ppm; ESR: 50 Ohm; Operating Mode: Fundamental; PartId: 8833; Supplier 1: Digi-Key; Supplier Part Number 1: 1253-1225-2-ND; ComponentLink1Description: Datasheet; ComponentLink1URL: http://media.digikey.com/pdf/Data%20Sheets/AVX%20PDFs/CX3225GBxD0HEQ_Series_Spec.pdf; ComponentLink2Description: Digi-Key Listing; ComponentLink2URL: https://www.digikey.com/product-detail/en/CX3225GB48000D0HEQCC/1253-1225-2-ND/4453882; Price: 0,377; Type: MHz Crystal; Device Package: 4-SMD, No Lead (DFN, LCC); Series: CX3225GB, Kyocera; Frequency: 48MHz; Load Capacitance: 8pF
footprint Kyocera CX3225GB
pins: 1, 3

## CX3225GB48000D0HPQCC
designator Y?, comment 48MHz
CRYSTAL 48.0000MHZ 8PF SMD; Part Number: CX3225GB48000D0HPQCC; Manufacturer: AVX Corp/Kyocera Corp; Frequency Stability: 30ppm; Frequency Tolerance: 20ppm; ESR: 50 Ohm; Operating Mode: Fundamental; PartId: 8842; Supplier 1: Digi-Key; Supplier Part Number 1: 1253-1226-2-ND; ComponentLink1Description: Datasheet; ComponentLink1URL: http://media.digikey.com/pdf/Data%20Sheets/AVX%20PDFs/CX3225GBxD0HPQCC_Series_Spec.pdf; ComponentLink2Description: Digi-Key Listing; ComponentLink2URL: https://www.digikey.com/product-detail/en/CX3225GB48000D0HPQCC/1253-1226-2-ND/4453903; Price: 0,3915; Type: MHz Crystal; Device Package: 4-SMD, No Lead (DFN, LCC); Series: CX3225GB, Kyocera; Frequency: 48MHz; Load Capacitance: 8pF
footprint Kyocera CX3225GB
pins: 1, 3

## CX3225GB49152P0HPQCC
designator Y?, comment 49.152MHz
CRYSTAL 49.1520MHZ 18PF SMD; Part Number: CX3225GB49152P0HPQCC; Manufacturer: AVX Corp/Kyocera Corp; Frequency Stability: 30ppm; Frequency Tolerance: 20ppm; ESR: 50 Ohm; Operating Mode: Fundamental; PartId: 8814; Supplier 1: Digi-Key; Supplier Part Number 1: 1253-1346-2-ND; ComponentLink1Description: Datasheet; ComponentLink1URL: http://media.digikey.com/pdf/Data%20Sheets/AVX%20PDFs/CX3225GB_Series_Spec.pdf; ComponentLink2Description: Digi-Key Listing; ComponentLink2URL: https://www.digikey.com/product-detail/en/CX3225GB49152P0HPQCC/1253-1346-2-ND/4896400; Price: 0,36; Type: MHz Crystal; Device Package: 4-SMD, No Lead (DFN, LCC); Series: CX3225GB, Kyocera; Frequency: 49.152MHz; Load Capacitance: 18pF
footprint Kyocera CX3225GB
pins: 1, 3

## CX3225GB54000D0HEQCC
designator Y?, comment 54MHz
CRYSTAL 54.0000MHZ 8PF SMD; Part Number: CX3225GB54000D0HEQCC; Manufacturer: AVX Corp/Kyocera Corp; Frequency Stability: 30ppm; Frequency Tolerance: 20ppm; ESR: 50 Ohm; Operating Mode: Fundamental; PartId: 8834; Supplier 1: Digi-Key; Supplier Part Number 1: 1253-1229-2-ND; ComponentLink1Description: Datasheet; ComponentLink1URL: http://media.digikey.com/pdf/Data%20Sheets/AVX%20PDFs/CX3225GBxD0HEQ_Series_Spec.pdf; ComponentLink2Description: Digi-Key Listing; ComponentLink2URL: https://www.digikey.com/product-detail/en/CX3225GB54000D0HEQCC/1253-1229-2-ND/4453883; Price: 0,377; Type: MHz Crystal; Device Package: 4-SMD, No Lead (DFN, LCC); Series: CX3225GB, Kyocera; Frequency: 54MHz; Load Capacitance: 8pF
footprint Kyocera CX3225GB
pins: 1, 3

## CX3225GB54000D0HPQCC
designator Y?, comment 54MHz
CRYSTAL 54.0000MHZ 8PF SMD; Part Number: CX3225GB54000D0HPQCC; Manufacturer: AVX Corp/Kyocera Corp; Frequency Stability: 30ppm; Frequency Tolerance: 20ppm; ESR: 50 Ohm; Operating Mode: Fundamental; PartId: 8843; Supplier 1: Digi-Key; Supplier Part Number 1: 1253-1230-2-ND; ComponentLink1Description: Datasheet; ComponentLink1URL: http://media.digikey.com/pdf/Data%20Sheets/AVX%20PDFs/CX3225GBxD0HPQCC_Series_Spec.pdf; ComponentLink2Description: Digi-Key Listing; ComponentLink2URL: https://www.digikey.com/product-detail/en/CX3225GB54000D0HPQCC/1253-1230-2-ND/4453904; Price: 0,3915; Type: MHz Crystal; Device Package: 4-SMD, No Lead (DFN, LCC); Series: CX3225GB, Kyocera; Frequency: 54MHz; Load Capacitance: 8pF
footprint Kyocera CX3225GB
pins: 1, 3

## CX3225GB54000P0HPQCC
designator Y?, comment 54MHz
CRYSTAL 54.0000MHZ 18PF SMD; Part Number: CX3225GB54000P0HPQCC; Manufacturer: AVX Corp/Kyocera Corp; Frequency Stability: 30ppm; Frequency Tolerance: 20ppm; ESR: 50 Ohm; Operating Mode: Fundamental; PartId: 8849; Supplier 1: Digi-Key; Supplier Part Number 1: 1253-1231-2-ND; ComponentLink1Description: Datasheet; ComponentLink1URL: http://media.digikey.com/pdf/Data%20Sheets/AVX%20PDFs/CX3225GB_Series_Spec.pdf; ComponentLink2Description: Digi-Key Listing; ComponentLink2URL: https://www.digikey.com/product-detail/en/CX3225GB54000P0HPQCC/1253-1231-2-ND/4453931; Price: 0,3915; Type: MHz Crystal; Device Package: 4-SMD, No Lead (DFN, LCC); Series: CX3225GB, Kyocera; Frequency: 54MHz; Load Capacitance: 18pF
footprint Kyocera CX3225GB
pins: 1, 3

## ECS-120-20-3X-EN-TR
designator Y?, comment 12MHz
CRYSTAL 12.0000MHZ 20PF SMD; Part Number: ECS-120-20-3X-EN-TR; Manufacturer: ECS Inc.; Frequency Stability: 50ppm; Frequency Tolerance: 30ppm; ESR: 60 Ohm; Operating Mode: Fundamental; PartId: 8648; Supplier 1: Digi-Key; Supplier Part Number 1: XC1787TR-ND; ComponentLink1Description: Datasheet; ComponentLink1URL: http://www.ecsxtal.com/store/pdf/CSM-3X.pdf; ComponentLink2Description: Digi-Key Listing; ComponentLink2URL: https://www.digikey.com/product-detail/en/ECS-120-20-3X-EN-TR/XC1787TR-ND/2676617; Price: 0,216; Type: MHz Crystal; Device Package: HC49/US; Series: CSM-3X; Frequency: 12MHz; Load Capacitance: 20pF
footprint ECS CSM-3X
pins: 1, 2

## ECS-120-20-3X-TR
designator Y?, comment 12MHz
CRYSTAL 12.0000MHZ 20PF SMD; Part Number: ECS-120-20-3X-TR; Manufacturer: ECS Inc.; Frequency Stability: 50ppm; Frequency Tolerance: 30ppm; ESR: 60 Ohm; Operating Mode: Fundamental; PartId: 8636; Supplier 1: Digi-Key; Supplier Part Number 1: XC1770TR-ND; ComponentLink1Description: Datasheet; ComponentLink1URL: http://www.ecsxtal.com/store/pdf/CSM-3X.pdf; ComponentLink2Description: Digi-Key Listing; ComponentLink2URL: https://www.digikey.com/product-detail/en/ECS-120-20-3X-TR/XC1770TR-ND/2676600; Price: 0,189; Type: MHz Crystal; Device Package: HC49/US; Series: CSM-3X; Frequency: 12MHz; Load Capacitance: 20pF
footprint ECS CSM-3X
pins: 1, 2

## ECS-122.8-20-3X-EN-TR
designator Y?, comment 12.288MHz
CRYSTAL 12.2880MHZ 20PF SMD; Part Number: ECS-122.8-20-3X-EN-TR; Manufacturer: ECS Inc.; Frequency Stability: 50ppm; Frequency Tolerance: 30ppm; ESR: 60 Ohm; Operating Mode: Fundamental; PartId: 8642; Supplier 1: Digi-Key; Supplier Part Number 1: XC1788TR-ND; ComponentLink1Description: Datasheet; ComponentLink1URL: http://www.ecsxtal.com/store/pdf/CSM-3X.pdf; ComponentLink2Description: Digi-Key Listing; ComponentLink2URL: https://www.digikey.com/product-detail/en/ECS-122.8-20-3X-EN-TR/XC1788TR-ND/2676618; Price: 0,216; Type: MHz Crystal; Device Package: HC49/US; Series: CSM-3X; Frequency: 12.288MHz; Load Capacitance: 20pF
footprint ECS CSM-3X
pins: 1, 2

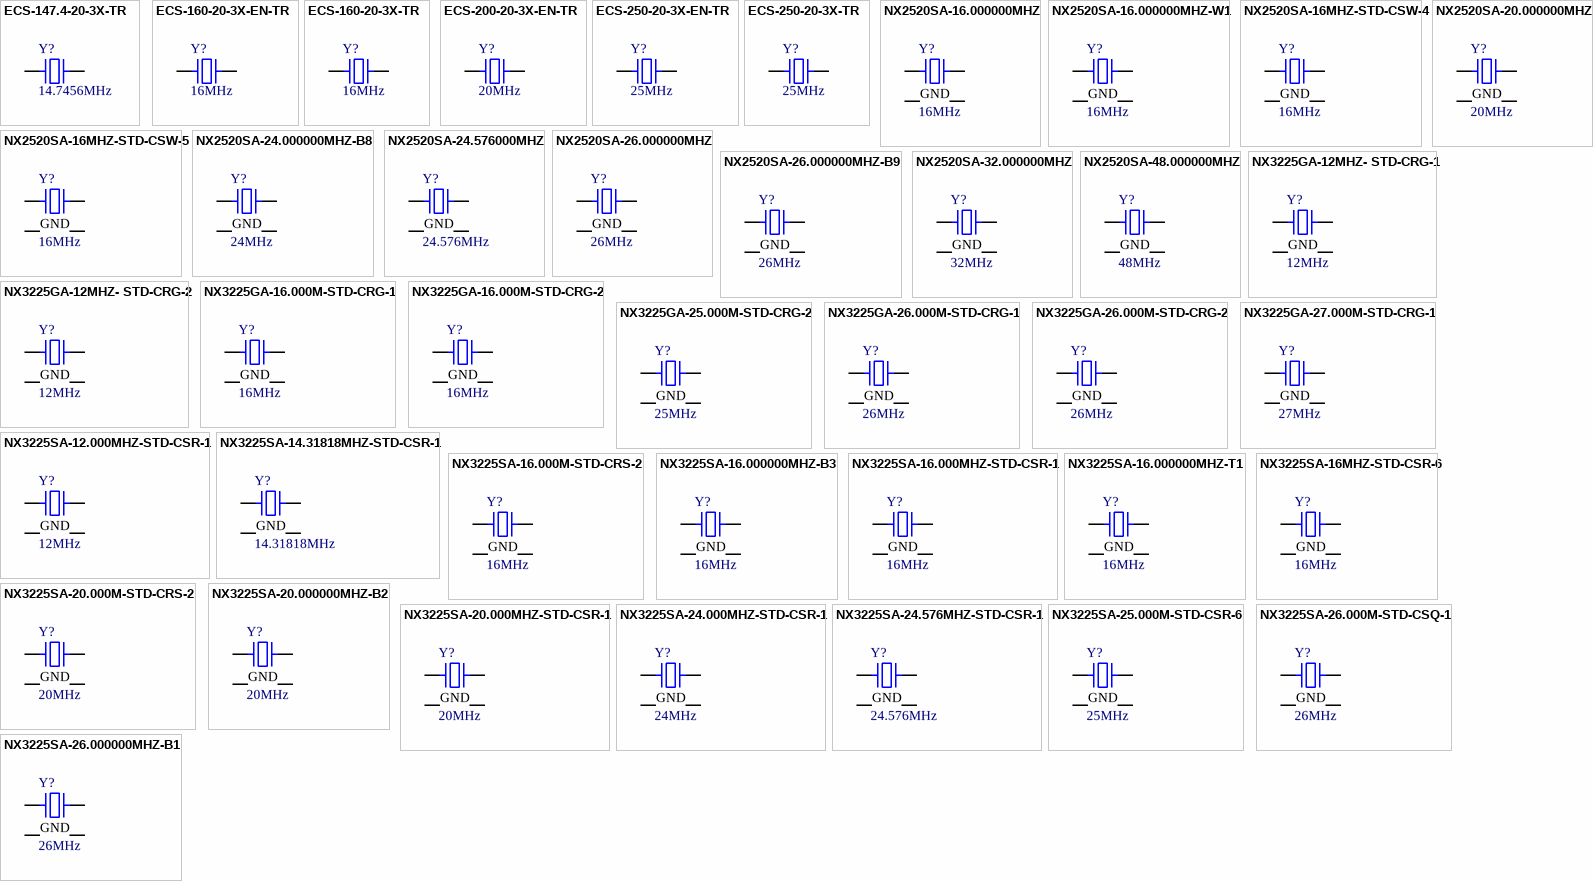
[diagram p8: symbols ECS-147.4-20-3X-TR to NX3225SA-26.000000MHZ-B1]

## ECS-147.4-20-3X-TR
designator Y?, comment 14.7456MHz
CRYSTAL 14.7456MHZ 20PF SMD; Part Number: ECS-147.4-20-3X-TR; Manufacturer: ECS Inc.; Frequency Stability: 50ppm; Frequency Tolerance: 30ppm; ESR: 60 Ohm; Operating Mode: Fundamental; PartId: 8654; Supplier 1: Digi-Key; Supplier Part Number 1: XC1775TR-ND; ComponentLink1Description: Datasheet; ComponentLink1URL: http://www.ecsxtal.com/store/pdf/CSM-3X.pdf; ComponentLink2Description: Digi-Key Listing; ComponentLink2URL: https://www.digikey.com/product-detail/en/ECS-147.4-20-3X-TR/XC1775TR-ND/2676605; Price: 0,189; Type: MHz Crystal; Device Package: HC49/US; Series: CSM-3X; Frequency: 14.7456MHz; Load Capacitance: 20pF
footprint ECS CSM-3X
pins: 1, 2

## ECS-160-20-3X-EN-TR
designator Y?, comment 16MHz
CRYSTAL 16.0000MHZ 20PF SMD; Part Number: ECS-160-20-3X-EN-TR; Manufacturer: ECS Inc.; Frequency Stability: 50ppm; Frequency Tolerance: 30ppm; ESR: 50 Ohm; Operating Mode: Fundamental; PartId: 8645; Supplier 1: Digi-Key; Supplier Part Number 1: XC1793TR-ND; ComponentLink1Description: Datasheet; ComponentLink1URL: http://www.ecsxtal.com/store/pdf/CSM-3X.pdf; ComponentLink2Description: Digi-Key Listing; ComponentLink2URL: https://www.digikey.com/product-detail/en/ECS-160-20-3X-EN-TR/XC1793TR-ND/2676623; Price: 0,216; Type: MHz Crystal; Device Package: HC49/US; Series: CSM-3X; Frequency: 16MHz; Load Capacitance: 20pF
footprint ECS CSM-3X
pins: 1, 2

## ECS-160-20-3X-TR
designator Y?, comment 16MHz
CRYSTAL 16.0000MHZ 20PF SMD; Part Number: ECS-160-20-3X-TR; Manufacturer: ECS Inc.; Frequency Stability: 50ppm; Frequency Tolerance: 30ppm; ESR: 50 Ohm; Operating Mode: Fundamental; PartId: 8633; Supplier 1: Digi-Key; Supplier Part Number 1: XC1776TR-ND; ComponentLink1Description: Datasheet; ComponentLink1URL: http://www.ecsxtal.com/store/pdf/CSM-3X.pdf; ComponentLink2Description: Digi-Key Listing; ComponentLink2URL: https://www.digikey.com/product-detail/en/ECS-160-20-3X-TR/XC1776TR-ND/2676606; Price: 0,189; Type: MHz Crystal; Device Package: HC49/US; Series: CSM-3X; Frequency: 16MHz; Load Capacitance: 20pF
footprint ECS CSM-3X
pins: 1, 2

## ECS-200-20-3X-EN-TR
designator Y?, comment 20MHz
CRYSTAL 20.0000MHZ 20PF SMD; Part Number: ECS-200-20-3X-EN-TR; Manufacturer: ECS Inc.; Frequency Stability: 50ppm; Frequency Tolerance: 30ppm; ESR: 50 Ohm; Operating Mode: Fundamental; PartId: 8657; Supplier 1: Digi-Key; Supplier Part Number 1: XC1796TR-ND; ComponentLink1Description: Datasheet; ComponentLink1URL: http://www.ecsxtal.com/store/pdf/CSM-3X.pdf; ComponentLink2Description: Digi-Key Listing; ComponentLink2URL: https://www.digikey.com/product-detail/en/ECS-200-20-3X-EN-TR/XC1796TR-ND/2676626; Price: 0,216; Type: MHz Crystal; Device Package: HC49/US; Series: CSM-3X; Frequency: 20MHz; Load Capacitance: 20pF
footprint ECS CSM-3X
pins: 1, 2

## ECS-250-20-3X-EN-TR
designator Y?, comment 25MHz
CRYSTAL 25.0000MHZ 20PF SMD; Part Number: ECS-250-20-3X-EN-TR; Manufacturer: ECS Inc.; Frequency Stability: 50ppm; Frequency Tolerance: 30ppm; ESR: 50 Ohm; Operating Mode: Fundamental; PartId: 8651; Supplier 1: Digi-Key; Supplier Part Number 1: XC1798TR-ND; ComponentLink1Description: Datasheet; ComponentLink1URL: http://www.ecsxtal.com/store/pdf/CSM-3X.pdf; ComponentLink2Description: Digi-Key Listing; ComponentLink2URL: https://www.digikey.com/product-detail/en/ECS-250-20-3X-EN-TR/XC1798TR-ND/2676628; Price: 0,216; Type: MHz Crystal; Device Package: HC49/US; Series: CSM-3X; Frequency: 25MHz; Load Capacitance: 20pF
footprint ECS CSM-3X
pins: 1, 2

## ECS-250-20-3X-TR
designator Y?, comment 25MHz
CRYSTAL 25.0000MHZ 20PF SMD; Part Number: ECS-250-20-3X-TR; Manufacturer: ECS Inc.; Frequency Stability: 50ppm; Frequency Tolerance: 30ppm; ESR: 50 Ohm; Operating Mode: Fundamental; PartId: 8639; Supplier 1: Digi-Key; Supplier Part Number 1: XC1781TR-ND; ComponentLink1Description: Datasheet; ComponentLink1URL: http://www.ecsxtal.com/store/pdf/CSM-3X.pdf; ComponentLink2Description: Digi-Key Listing; ComponentLink2URL: https://www.digikey.com/product-detail/en/ECS-250-20-3X-TR/XC1781TR-ND/2676611; Price: 0,189; Type: MHz Crystal; Device Package: Nonstandard SMD; Series: CSM-3X; Frequency: 25MHz; Load Capacitance: 20pF
footprint ECS CSM-3X
pins: 1, 2

## NX2520SA-16.000000MHZ
designator Y?, comment 16MHz
CRYSTAL 16.0000MHZ 10PF SMD; Part Number: NX2520SA-16.000000MHZ; Manufacturer: NDK; Frequency Stability: 10ppm; ESR: 80 Ohm; Operating Mode: Fundamental; PartId: 8496; Supplier 1: Digi-Key; Supplier Part Number 1: 644-1059-2-ND; ComponentLink1Description: Datasheet; ComponentLink1URL: http://media.digikey.com/pdf/Data%20Sheets/NDK%20PDFs/NX2520SA.pdf; ComponentLink2Description: Digi-Key Listing; ComponentLink2URL: http://www.digikey.com/product-detail/en/NX2520SA-16.000000MHZ/644-1059-2-ND/1128841; Price: 0,7336; Type: MHz Crystal; Device Package: 4-SMD, No Lead (DFN, LCC); Frequency: 16MHz; Frequency Tolerance: 10ppm; Load Capacitance: 10pF
footprint NDK NX2520SA
pins: 1, 2 GND, 3, 4 GND

## NX2520SA-16.000000MHZ-W1
designator Y?, comment 16MHz
CRYSTAL 16.0000MHZ 8PF SMD; Part Number: NX2520SA-16.000000MHZ-W1; Manufacturer: NDK; Frequency Stability: 20ppm; ESR: 120 Ohm; Operating Mode: Fundamental; PartId: 8498; Supplier 1: Digi-Key; Supplier Part Number 1: 644-1093-2-ND; ComponentLink1Description: Datasheet; ComponentLink1URL: http://media.digikey.com/pdf/Data Sheets/NDK PDFs/NX2520SA-16.000000MHz-W1.pdf; ComponentLink2Description: Digi-Key Listing; ComponentLink2URL: http://www.digikey.com/product-detail/en/NX2520SA-16.000000MHZ-W1/644-1093-2-ND/1468334; Price: 0,7938; Type: MHz Crystal; Device Package: 4-SMD, No Lead (DFN, LCC); Frequency: 16MHz; Frequency Tolerance: 20ppm; Load Capacitance: 8pF
footprint NDK NX2520SA
pins: 1, 2 GND, 3, 4 GND

## NX2520SA-16MHZ-STD-CSW-4
designator Y?, comment 16MHz
CRYSTAL 16.0000MHZ 8PF SMD; Part Number: NX2520SA-16MHZ-STD-CSW-4; Manufacturer: NDK; Frequency Stability: 15ppm; ESR: 80 Ohm; Operating Mode: Fundamental; PartId: 8494; Supplier 1: Digi-Key; Supplier Part Number 1: 644-1168-2-ND; ComponentLink1Description: Datasheet; ComponentLink1URL: http://www.ndk.com/images/products/catalog/c_NX2520SA-STD-CSW-4_e.pdf; ComponentLink2Description: Digi-Key Listing; ComponentLink2URL: http://www.digikey.com/product-detail/en/NX2520SA-16MHZ-STD-CSW-4/644-1168-2-ND/3125627; Price: 0,58; Type: MHz Crystal; Device Package: 4-SMD; Frequency: 16MHz; Frequency Tolerance: 15ppm; Load Capacitance: 8pF
footprint NDK NX2520SA
pins: 1, 2 GND, 3, 4 GND

## NX2520SA-16MHZ-STD-CSW-5
designator Y?, comment 16MHz
CRYSTAL 16.0000MHZ 8PF SMD; Part Number: NX2520SA-16MHZ-STD-CSW-5; Manufacturer: NDK; Frequency Stability: 25ppm; Frequency Tolerance: 15ppm; ESR: 80 Ohm; Operating Mode: Fundamental; PartId: 8493; Supplier 1: Digi-Key; Supplier Part Number 1: 644-1169-2-ND; ComponentLink1Description: Datasheet; ComponentLink1URL: http://www.ndk.com/images/products/catalog/c_NX2520SA-STD-CSW-5_e.pdf; ComponentLink2Description: Digi-Key Listing; ComponentLink2URL: http://www.digikey.com/product-detail/en/NX2520SA-16MHZ-STD-CSW-5/644-1169-2-ND/3125628; Price: 0,58; Type: MHz Crystal; Device Package: 4-SMD; Frequency: 16MHz; Load Capacitance: 8pF
footprint NDK NX2520SA
pins: 1, 2 GND, 3, 4 GND

## NX2520SA-20.000000MHZ
designator Y?, comment 20MHz
CRYSTAL 20.0000MHZ 10PF SMD; Part Number: NX2520SA-20.000000MHZ; Manufacturer: NDK; Frequency Stability: 10ppm; ESR: 70 Ohm; Operating Mode: Fundamental; PartId: 8500; Supplier 1: Digi-Key; Supplier Part Number 1: 644-1060-2-ND; ComponentLink1Description: Datasheet; ComponentLink1URL: http://media.digikey.com/pdf/Data%20Sheets/NDK%20PDFs/NX2520SA.pdf; ComponentLink2Description: Digi-Key Listing; ComponentLink2URL: http://www.digikey.com/product-detail/en/NX2520SA-20.000000MHZ/644-1060-2-ND/1128842; Price: 0,7336; Type: MHz Crystal; Device Package: 4-SMD, No Lead (DFN, LCC); Frequency: 20MHz; Frequency Tolerance: 10ppm; Load Capacitance: 10pF
footprint NDK NX2520SA
pins: 1, 2 GND, 3, 4 GND

## NX2520SA-24.000000MHZ-B8
designator Y?, comment 24MHz
CRYSTAL 24.0000MHZ 10PF SMD; Part Number: NX2520SA-24.000000MHZ-B8; Manufacturer: NDK; Frequency Stability: 10ppm; ESR: 100 Ohm; Operating Mode: Fundamental; PartId: 8499; Supplier 1: Digi-Key; Supplier Part Number 1: 644-1094-2-ND; ComponentLink1Description: Datasheet; ComponentLink1URL: http://media.digikey.com/pdf/Data Sheets/NDK PDFs/NX2520SA-24.000000MHz-B8.pdf; ComponentLink2Description: Digi-Key Listing; ComponentLink2URL: http://www.digikey.com/product-detail/en/NX2520SA-24.000000MHZ-B8/644-1094-2-ND/1468335; Price: 0,7938; Type: MHz Crystal; Device Package: 4-SMD, No Lead (DFN, LCC); Frequency: 24MHz; Frequency Tolerance: 10ppm; Load Capacitance: 10pF
footprint NDK NX2520SA
pins: 1, 2 GND, 3, 4 GND

## NX2520SA-24.576000MHZ
designator Y?, comment 24.576MHz
CRYSTAL 24.5760MHZ 10PF SMD; Part Number: NX2520SA-24.576000MHZ; Manufacturer: NDK; Frequency Stability: 10ppm; ESR: 70 Ohm; Operating Mode: Fundamental; PartId: 8501; Supplier 1: Digi-Key; Supplier Part Number 1: 644-1062-2-ND; ComponentLink1Description: Datasheet; ComponentLink1URL: http://media.digikey.com/pdf/Data%20Sheets/NDK%20PDFs/NX2520SA.pdf; ComponentLink2Description: Digi-Key Listing; ComponentLink2URL: http://www.digikey.com/product-detail/en/NX2520SA-24.576000MHZ/644-1062-2-ND/1128844; Price: 0,7336; Type: MHz Crystal; Device Package: 4-SMD, No Lead (DFN, LCC); Frequency: 24.576MHz; Frequency Tolerance: 10ppm; Load Capacitance: 10pF
footprint NDK NX2520SA
pins: 1, 2 GND, 3, 4 GND

## NX2520SA-26.000000MHZ
designator Y?, comment 26MHz
CRYSTAL 26.0000MHZ 10PF SMD; Part Number: NX2520SA-26.000000MHZ; Manufacturer: NDK; Frequency Stability: 10ppm; ESR: 70 Ohm; Operating Mode: Fundamental; PartId: 8497; Supplier 1: Digi-Key; Supplier Part Number 1: 644-1063-2-ND; ComponentLink1Description: Datasheet; ComponentLink1URL: http://media.digikey.com/pdf/Data%20Sheets/NDK%20PDFs/NX2520SA.pdf; ComponentLink2Description: Digi-Key Listing; ComponentLink2URL: http://www.digikey.com/product-detail/en/NX2520SA-26.000000MHZ/644-1063-2-ND/1128845; Price: 0,7336; Type: MHz Crystal; Device Package: 4-SMD, No Lead (DFN, LCC); Frequency: 26MHz; Frequency Tolerance: 10ppm; Load Capacitance: 10pF
footprint NDK NX2520SA
pins: 1, 2 GND, 3, 4 GND